# Altium footprint library MainLib.PcbLib: 20 footprints (part 1 of 2)
Each footprint in its own frame and in the unit in brackets; x right, y up, seen from the top. Pads: shape width x height; smd on the part's side, far side on the other; paste and mask are expansions set on the pad; w line width, h text height; cw(c..) or ccw(c..) is an arc to the next point about the centre after c.
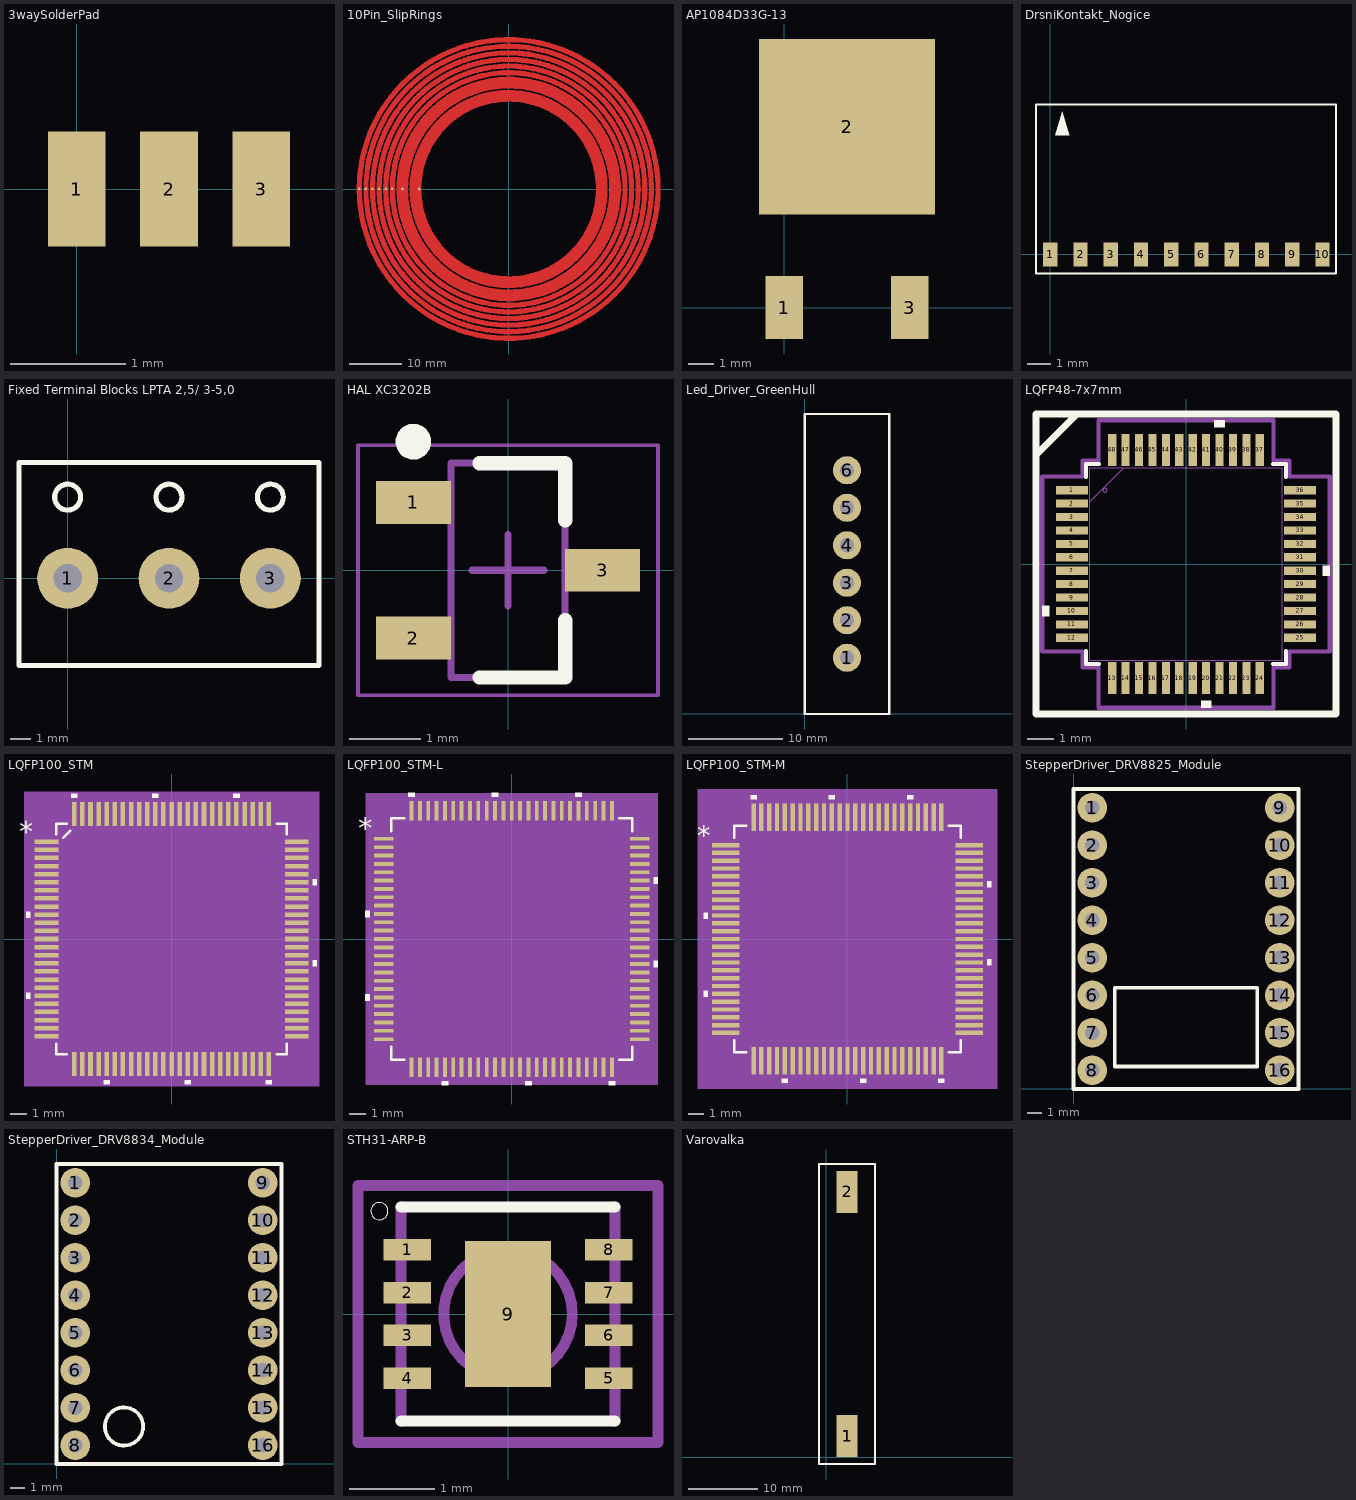
[diagram p0: the footprints below, top view; thin cyan lines are the x and y axes]

## 3waySolderPad [mm]
pads (3):
  rect 0.5x1 smd: 1(0,0) 2(0.8,0) 3(1.6,0)

## 10Pin_SlipRings [mm]
pads (8):
  round 0.5 smd: 1(-17.2,0) 3(-20.4,0) 5(-22.35,0.01) 6(-23.62,0.01) 7(-24.89,0.01) 8(-26.16,0.01) 9(-27.44,0.01) 10(-28.7,0.01)
Top Layer:
  circle w2.27: c0,0 r17.905
  circle w2.27: c0,0 r20.445
  circle w1: c0,0 r22.35
  circle w1: c0,0 r23.62
  circle w1: c0,0 r24.89
  circle w1: c0,0 r26.16
  circle w1: c0,0 r28.7
  circle w1: c0,0 r27.43
Top Solder:
  drawing of 25 lines, arcs and shapes, not listed

## AP1084D33G-13 [mm]
pads (3):
  rect 1.5x2.5 smd: 1(0,0) 3(5,0)
  rect 7x7 smd: 2(2.5,7.2)

## AP62300WU-7 [mil]

## DrsniKontakt_Nogice [mm]
pads (10):
  rect 0.6x1 smd: 1(0,0) 2(1.27,0) 3(2.54,0) 4(3.81,0) 5(5.08,0) 6(6.35,0) 7(7.62,0) 8(8.89,0) 9(10.16,0) 10(11.43,0)
Top Overlay:
  region: 0.5,6 0.8,5 0.2,5
  lines w0.1: -0.6,-0.8 12,-0.8 12,-0.6 12,6.3 -0.6,6.3 -0.6,-0.6 -0.6,-0.8

## Fixed Terminal Blocks LPTA 2,5/ 3-5,0 [mm]
pads (3):
  round 3 hole 1.4: 1(0,0) 2(5,0) 3(10,0)
Top Overlay:
  circle w0.254: c10,4 r0.64
  circle w0.254: c5,4 r0.64
  circle w0.254: c0,4 r0.64
  lines w0.254: -2.4,-4.3 12.4,-4.3 12.4,5.7 -2.4,5.7 -2.4,-4.3
3D body "konektor_distroled.stp": height 11.99, standoff -3, extent -2.4,-4.3 12.4,5.7

## HAL XC3202B [mm] "SOT23, 3-Leads, Body 3.00x2.85mm, Pitch 0.95mm, IPC Medium Density"
height 1.15
pads (3):
  rect 1.05x0.6 smd: 1(-1.325,0.95) 2(-1.325,-0.95) 3(1.325,0)
Top Overlay:
  circle w0.25: c-1.325,1.8 r0.125
  lines w0.2: -0.4,-1.5 0.8,-1.5 0.8,-0.7 ; -0.4,1.5 0.8,1.5 0.8,0.7
Mechanical 13:
  lines w0.1: -0.8,-1.5 0.8,-1.5 0.8,1.5 -0.8,1.5 -0.8,-1.5
Mechanical 15:
  lines w0.05: -2.1,-1.75 2.1,-1.75 2.1,1.75 -2.1,1.75 -2.1,-1.75
  lines w0.1: -0.5,0 0.5,0 ; 0,-0.5 0,0.5
3D body: height 1.15, standoff 0.05, extent -0.8,-1.5 0.8,1.5

## Led_Driver_GreenHull [mm]
pads (6):
  round 3 hole 1.5: 1(4.5,6) 2(4.5,10) 3(4.5,14) 4(4.5,18) 5(4.5,22) 6(4.5,26)
Top Overlay:
  lines w0.254: 0,0 9,0 9,32 0,32 0,0

## LQFP48-7x7mm [mil]
pads (48):
  rect 47x12 smd paste+0 mask+0: 1(-167.32,108.27) 2(-167.32,88.58) 3(-167.32,68.9) 4(-167.32,49.21) 5(-167.32,29.53) 6(-167.32,9.84) 7(-167.32,-9.84) 8(-167.32,-29.53) 9(-167.32,-49.21) 10(-167.32,-68.9) 11(-167.32,-88.58) 12(-167.32,-108.27) 25(167.32,-108.27) 26(167.32,-88.58) 27(167.32,-68.9) 28(167.32,-49.21) 29(167.32,-29.53) 30(167.32,-9.84) 31(167.32,9.84) 32(167.32,29.53) 33(167.32,49.21) 34(167.32,68.9) 35(167.32,88.58) 36(167.32,108.27)
  rect 12x47 smd paste+0 mask+0: 13(-108.27,-167.32) 14(-88.58,-167.32) 15(-68.9,-167.32) 16(-49.21,-167.32) 17(-29.53,-167.32) 18(-9.84,-167.32) 19(9.84,-167.32) 20(29.53,-167.32) 21(49.21,-167.32) 22(68.9,-167.32) 23(88.58,-167.32) 24(108.27,-167.32) 37(108.27,167.32) 38(88.58,167.32) 39(68.9,167.32) 40(49.21,167.32) 41(29.53,167.32) 42(9.84,167.32) 43(-9.84,167.32) 44(-29.53,167.32) 45(-49.21,167.32) 46(-68.9,167.32) 47(-88.58,167.32) 48(-108.27,167.32)
Top Overlay:
  region: 56.71,200.82 41.71,200.82 41.71,210.82 56.71,210.82
  region: 200.82,-2.34 210.82,-2.34 210.82,-17.34 200.82,-17.34
  region: 37.03,-200.82 22.03,-200.82 22.03,-210.82 37.03,-210.82
  region: -200.82,-61.4 -210.82,-61.4 -210.82,-76.4 -200.82,-76.4
  lines w6: -146.5,-127.37 -146.5,-146.5 -127.37,-146.5 ; -146.5,127.37 -146.5,146.5 -127.37,146.5 ; 127.37,-146.5 146.5,-146.5 146.5,-127.37 ; 127.37,146.5 146.5,146.5 146.5,127.37
  lines w10: -220,220 -220,-220 220,-220 220,220 -160,220 ; -220,220 -220,160 -160,220 ; -220,220 -160,220
Mechanical 13:
  circle w0: c-118.82,108.27 r3
  lines w1: -141.5,91.5 -91.5,141.5 ; -141.5,-141.5 141.5,-141.5 141.5,141.5 -141.5,141.5 -141.5,-141.5
Mechanical 15:
  lines w6: -210.82,-128.27 -151.5,-128.27 -151.5,-151.5 -128.27,-151.5 -128.27,-210.82 128.27,-210.82 128.27,-151.5 151.5,-151.5 151.5,-128.27 210.82,-128.27 210.82,128.27 151.5,128.27 151.5,151.5 128.27,151.5 128.27,210.82 -128.27,210.82 -128.27,151.5 -151.5,151.5 -151.5,128.27 -210.82,128.27 -210.82,-128.27
3D body "LQFP48-7x7mm.step": height 63.11, standoff 0, extent -177.05,-177.05 177.05,177.05

## LQFP100_STM [mil]
pads (100):
  rect 58x11 smd mask+5: 1(-304,236.22) 2(-304,216.54) 3(-304,196.85) 4(-304,177.17) 5(-304,157.48) 6(-304,137.8) 7(-304,118.11) 8(-304,98.43) 9(-304,78.74) 10(-304,59.06) 11(-304,39.37) 12(-304,19.69) 13(-304,0) 14(-304,-19.68) 15(-304,-39.37) 16(-304,-59.06) 17(-304,-78.74) 18(-304,-98.43) 19(-304,-118.11) 20(-304,-137.8) 21(-304,-157.48) 22(-304,-177.17) 23(-304,-196.85) 24(-304,-216.54) 25(-304,-236.22) 51(304,-236.22) 52(304,-216.54) 53(304,-196.85) 54(304,-177.17) 55(304,-157.48) 56(304,-137.8) 57(304,-118.11) 58(304,-98.43) 59(304,-78.74) 60(304,-59.06) 61(304,-39.37) 62(304,-19.68) 63(304,0) 64(304,19.68) 65(304,39.37) 66(304,59.06) 67(304,78.74) 68(304,98.43) 69(304,118.11) 70(304,137.8) 71(304,157.48) 72(304,177.17) 73(304,196.85) 74(304,216.54) 75(304,236.22)
  rect 11x58 smd mask+5: 26(-236.22,-304) 27(-216.54,-304) 28(-196.85,-304) 29(-177.17,-304) 30(-157.48,-304) 31(-137.8,-304) 32(-118.11,-304) 33(-98.43,-304) 34(-78.74,-304) 35(-59.06,-304) 36(-39.37,-304) 37(-19.68,-304) 38(0,-304) 39(19.68,-304) 40(39.37,-304) 41(59.06,-304) 42(78.74,-304) 43(98.43,-304) 44(118.11,-304) 45(137.8,-304) 46(157.48,-304) 47(177.17,-304) 48(196.85,-304) 49(216.54,-304) 50(236.22,-304) 76(236.22,304) 77(216.54,304) 78(196.85,304) 79(177.17,304) 80(157.48,304) 81(137.8,304) 82(118.11,304) 83(98.43,304) 84(78.74,304) 85(59.06,304) 86(39.37,304) 87(19.68,304) 88(0,304) 89(-19.68,304) 90(-39.37,304) 91(-59.06,304) 92(-78.74,304) 93(-98.43,304) 94(-118.11,304) 95(-137.8,304) 96(-157.48,304) 97(-177.17,304) 98(-196.85,304) 99(-216.54,304) 100(-236.22,304)
Top Overlay:
  region: -228.72,343 -243.72,343 -243.72,353 -228.72,353
  region: -31.87,343 -46.87,343 -46.87,353 -31.87,353
  region: 164.98,343 149.98,343 149.98,353 164.98,353
  region: 343,145.3 353,145.3 353,130.3 343,130.3
  region: 343,-51.56 353,-51.56 353,-66.56 343,-66.56
  region: 243.72,-343 228.72,-343 228.72,-353 243.72,-353
  region: 46.87,-343 31.87,-343 31.87,-353 46.87,-353
  region: -149.98,-343 -164.98,-343 -164.98,-353 -149.98,-353
  region: -343,-130.3 -353,-130.3 -353,-145.3 -343,-145.3
  region: -343,66.56 -353,66.56 -353,51.56 -343,51.56
  lines w6: -279.5,-254.82 -279.5,-279.5 -254.82,-279.5 ; -279.5,254.82 -279.5,279.5 -254.82,279.5 ; -262.72,246.28 -246.28,262.72 ; 254.82,-279.5 279.5,-279.5 279.5,-254.82 ; 254.82,279.5 279.5,279.5 279.5,254.82
  text "*" at -370.5,236.06 h50
Mechanical 5:
  region: 358,-358 -358,-358 -358,358 358,358
Mechanical 13:
  drawing of 405 lines, arcs and shapes, not listed
  text "*" at -370.5,236.06 h50
Mechanical 15:
  region: 343,-343 -343,-343 -343,343 343,343
  lines w6: -343,-343 343,-343 343,343 -343,343 -343,-343
3D body "LQFP100_STM.step": height 63.11, standoff 0, extent -319.02,-319.02 319.02,319.02

## LQFP100_STM-L [mil]
pads (100):
  rect 46x9 smd paste+0 mask+0: 1(-302,236.22) 2(-302,216.54) 3(-302,196.85) 4(-302,177.17) 5(-302,157.48) 6(-302,137.8) 7(-302,118.11) 8(-302,98.43) 9(-302,78.74) 10(-302,59.06) 11(-302,39.37) 12(-302,19.69) 13(-302,0) 14(-302,-19.68) 15(-302,-39.37) 16(-302,-59.06) 17(-302,-78.74) 18(-302,-98.43) 19(-302,-118.11) 20(-302,-137.8) 21(-302,-157.48) 22(-302,-177.17) 23(-302,-196.85) 24(-302,-216.54) 25(-302,-236.22) 51(302,-236.22) 52(302,-216.54) 53(302,-196.85) 54(302,-177.17) 55(302,-157.48) 56(302,-137.8) 57(302,-118.11) 58(302,-98.43) 59(302,-78.74) 60(302,-59.06) 61(302,-39.37) 62(302,-19.68) 63(302,0) 64(302,19.68) 65(302,39.37) 66(302,59.06) 67(302,78.74) 68(302,98.43) 69(302,118.11) 70(302,137.8) 71(302,157.48) 72(302,177.17) 73(302,196.85) 74(302,216.54) 75(302,236.22)
  rect 9x46 smd paste+0 mask+0: 26(-236.22,-302) 27(-216.54,-302) 28(-196.85,-302) 29(-177.17,-302) 30(-157.48,-302) 31(-137.8,-302) 32(-118.11,-302) 33(-98.43,-302) 34(-78.74,-302) 35(-59.06,-302) 36(-39.37,-302) 37(-19.68,-302) 38(0,-302) 39(19.68,-302) 40(39.37,-302) 41(59.06,-302) 42(78.74,-302) 43(98.43,-302) 44(118.11,-302) 45(137.8,-302) 46(157.48,-302) 47(177.17,-302) 48(196.85,-302) 49(216.54,-302) 50(236.22,-302) 76(236.22,302) 77(216.54,302) 78(196.85,302) 79(177.17,302) 80(157.48,302) 81(137.8,302) 82(118.11,302) 83(98.43,302) 84(78.74,302) 85(59.06,302) 86(39.37,302) 87(19.68,302) 88(0,302) 89(-19.68,302) 90(-39.37,302) 91(-59.06,302) 92(-78.74,302) 93(-98.43,302) 94(-118.11,302) 95(-137.8,302) 96(-157.48,302) 97(-177.17,302) 98(-196.85,302) 99(-216.54,302) 100(-236.22,302)
Top Overlay:
  region: -335,66.56 -345,66.56 -345,51.56 -335,51.56
  region: -335,-130.3 -345,-130.3 -345,-145.3 -335,-145.3
  region: -149.98,-335 -164.98,-335 -164.98,-345 -149.98,-345
  region: 46.87,-335 31.87,-335 31.87,-345 46.87,-345
  region: 243.72,-335 228.72,-335 228.72,-345 243.72,-345
  region: 335,-51.56 345,-51.56 345,-66.56 335,-66.56
  region: 335,145.3 345,145.3 345,130.3 335,130.3
  region: 164.98,335 149.98,335 149.98,345 164.98,345
  region: -31.87,335 -46.87,335 -46.87,345 -31.87,345
  region: -228.72,335 -243.72,335 -243.72,345 -228.72,345
  lines w6: -284.5,-253.82 -284.5,-284.5 -253.82,-284.5 ; -284.5,253.82 -284.5,284.5 -253.82,284.5 ; 253.82,-284.5 284.5,-284.5 284.5,-253.82 ; 253.82,284.5 284.5,284.5 284.5,253.82
  text "*" at -362.5,236.06 h50
Mechanical 5:
  region: 344,-344 -344,-344 -344,344 344,344
Mechanical 13:
  drawing of 405 lines, arcs and shapes, not listed
  text "*" at -277,221.06 h50
Mechanical 15:
  region: -244.72,-283.5 -283.5,-283.5 -283.5,-244.72 -329,-244.72 -329,244.72 -283.5,244.72 -283.5,283.5 -244.72,283.5 -244.72,329 244.72,329 244.72,283.5 283.5,283.5 283.5,244.72 329,244.72 329,-244.72 283.5,-244.72 283.5,-283.5 244.72,-283.5 244.72,-329 -244.72,-329
  lines w6: -329,-244.72 -283.5,-244.72 -283.5,-283.5 -244.72,-283.5 -244.72,-329 244.72,-329 244.72,-283.5 283.5,-283.5 283.5,-244.72 329,-244.72 329,244.72 283.5,244.72 283.5,283.5 244.72,283.5 244.72,329 -244.72,329 -244.72,283.5 -283.5,283.5 -283.5,244.72 -329,244.72 -329,-244.72
3D body "LQFP100_STM.step": height 63.11, standoff 0, extent -319.02,-319.02 319.02,319.02

## LQFP100_STM-M [mil]
pads (100):
  rect 70x11 smd paste+0 mask+0: 1(-306,236.22) 2(-306,216.54) 3(-306,196.85) 4(-306,177.17) 5(-306,157.48) 6(-306,137.8) 7(-306,118.11) 8(-306,98.43) 9(-306,78.74) 10(-306,59.06) 11(-306,39.37) 12(-306,19.69) 13(-306,0) 14(-306,-19.68) 15(-306,-39.37) 16(-306,-59.06) 17(-306,-78.74) 18(-306,-98.43) 19(-306,-118.11) 20(-306,-137.8) 21(-306,-157.48) 22(-306,-177.17) 23(-306,-196.85) 24(-306,-216.54) 25(-306,-236.22) 51(306,-236.22) 52(306,-216.54) 53(306,-196.85) 54(306,-177.17) 55(306,-157.48) 56(306,-137.8) 57(306,-118.11) 58(306,-98.43) 59(306,-78.74) 60(306,-59.06) 61(306,-39.37) 62(306,-19.68) 63(306,0) 64(306,19.68) 65(306,39.37) 66(306,59.06) 67(306,78.74) 68(306,98.43) 69(306,118.11) 70(306,137.8) 71(306,157.48) 72(306,177.17) 73(306,196.85) 74(306,216.54) 75(306,236.22)
  rect 11x70 smd paste+0 mask+0: 26(-236.22,-306) 27(-216.54,-306) 28(-196.85,-306) 29(-177.17,-306) 30(-157.48,-306) 31(-137.8,-306) 32(-118.11,-306) 33(-98.43,-306) 34(-78.74,-306) 35(-59.06,-306) 36(-39.37,-306) 37(-19.68,-306) 38(0,-306) 39(19.68,-306) 40(39.37,-306) 41(59.06,-306) 42(78.74,-306) 43(98.43,-306) 44(118.11,-306) 45(137.8,-306) 46(157.48,-306) 47(177.17,-306) 48(196.85,-306) 49(216.54,-306) 50(236.22,-306) 76(236.22,306) 77(216.54,306) 78(196.85,306) 79(177.17,306) 80(157.48,306) 81(137.8,306) 82(118.11,306) 83(98.43,306) 84(78.74,306) 85(59.06,306) 86(39.37,306) 87(19.68,306) 88(0,306) 89(-19.68,306) 90(-39.37,306) 91(-59.06,306) 92(-78.74,306) 93(-98.43,306) 94(-118.11,306) 95(-137.8,306) 96(-157.48,306) 97(-177.17,306) 98(-196.85,306) 99(-216.54,306) 100(-236.22,306)
Top Overlay:
  region: -351,66.56 -361,66.56 -361,51.56 -351,51.56
  region: -351,-130.3 -361,-130.3 -361,-145.3 -351,-145.3
  region: -149.98,-351 -164.98,-351 -164.98,-361 -149.98,-361
  region: 46.87,-351 31.87,-351 31.87,-361 46.87,-361
  region: 243.72,-351 228.72,-351 228.72,-361 243.72,-361
  region: 351,-51.56 361,-51.56 361,-66.56 351,-66.56
  region: 351,145.3 361,145.3 361,130.3 351,130.3
  region: 164.98,351 149.98,351 149.98,361 164.98,361
  region: -31.87,351 -46.87,351 -46.87,361 -31.87,361
  region: -228.72,351 -243.72,351 -243.72,361 -228.72,361
  lines w6: -284.5,-254.82 -284.5,-284.5 -254.82,-284.5 ; -284.5,254.82 -284.5,284.5 -254.82,284.5 ; 254.82,-284.5 284.5,-284.5 284.5,-254.82 ; 254.82,284.5 284.5,284.5 284.5,254.82
  text "*" at -378.5,236.06 h50
Mechanical 5:
  region: 376,-376 -376,-376 -376,376 376,376
Mechanical 13:
  drawing of 405 lines, arcs and shapes, not listed
  text "*" at -277,221.06 h50
Mechanical 15:
  region: -261.72,-299.5 -299.5,-299.5 -299.5,-261.72 -361,-261.72 -361,261.72 -299.5,261.72 -299.5,299.5 -261.72,299.5 -261.72,361 261.72,361 261.72,299.5 299.5,299.5 299.5,261.72 361,261.72 361,-261.72 299.5,-261.72 299.5,-299.5 261.72,-299.5 261.72,-361 -261.72,-361
  lines w6: -361,-261.72 -299.5,-261.72 -299.5,-299.5 -261.72,-299.5 -261.72,-361 261.72,-361 261.72,-299.5 299.5,-299.5 299.5,-261.72 361,-261.72 361,261.72 299.5,261.72 299.5,299.5 261.72,299.5 261.72,361 -261.72,361 -261.72,299.5 -299.5,299.5 -299.5,261.72 -361,261.72 -361,-261.72
3D body "LQFP100_STM.step": height 63.11, standoff 0, extent -319.02,-319.02 319.02,319.02

## StepperDriver_DRV8825_Module [mm] "https://www.pololu.com/product/2133"
pads (16):
  round 2 hole 1: 1(1.27,19.05) 2(1.27,16.51) 3(1.27,13.97) 4(1.27,11.43) 5(1.27,8.89) 6(1.27,6.35) 7(1.27,3.81) 8(1.27,1.27) 9(13.97,19.05) 10(13.97,16.51) 11(13.97,13.97) 12(13.97,11.43) 13(13.97,8.89) 14(13.97,6.35) 15(13.97,3.81) 16(13.97,1.27)
Top Overlay:
  lines w0.254: 0,0 0,20.32 15.24,20.32 15.24,0 0,0 ; 2.794,1.524 12.446,1.524 12.446,6.858 2.794,6.858 2.794,1.524

## StepperDriver_DRV8834_Module [mm] "https://www.pololu.com/product/2133"
pads (16):
  round 2 hole 1: 1(1.27,19.05) 2(1.27,16.51) 3(1.27,13.97) 4(1.27,11.43) 5(1.27,8.89) 6(1.27,6.35) 7(1.27,3.81) 8(1.27,1.27) 9(13.97,19.05) 10(13.97,16.51) 11(13.97,13.97) 12(13.97,11.43) 13(13.97,8.89) 14(13.97,6.35) 15(13.97,3.81) 16(13.97,1.27)
Top Overlay:
  circle w0.254: c4.572,2.54 r1.295
  lines w0.254: 0,0 15.24,0 15.24,20.32 0,20.32 0,0

## STH31-ARP-B [mm]
pads (9):
  rect 0.55x0.25 smd: 1(-1.175,0.75) 2(-1.175,0.25) 3(-1.175,-0.25) 4(-1.175,-0.75) 5(1.175,-0.75) 6(1.175,-0.25) 7(1.175,0.25) 8(1.175,0.75)
  rect 1x1.7 smd paste-2: 9(0,0)
Top Overlay:
  circle w0: c-1.5,1.2 r0.1
  lines w0.127: -1.25,-1.25 1.25,-1.25 ; -1.25,1.25 1.25,1.25
Mechanical 13:
  circle w0.127: c0,0 r0.75
  lines w0.127: -1.25,-1.25 -1.25,1.25 ; 1.25,-1.25 1.25,1.25
Mechanical 15:
  lines w0.127: -1.75,-1.5 1.75,-1.5 1.75,1.5 -1.75,1.5 -1.75,-1.5
3D body "step_temp.STEP": height 0.9, standoff 0, extent -1.251,-1.251 1.251,1.251

## Varovalka [mm]
pads (3):
  rect 3x6 smd: 1(3,3) 1(3,3) 2(3,38)
Top Overlay:
  lines w0.254: -1,-1 -1,42 7,42 7,-1 -1,-1